# Altium schematic symbol library XTAL,OSC,32MHz,SMD.Schlib: 1 symbol
Pins are listed as number, name and electrical type; pins without a type are passive.

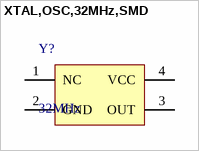
[diagram p0: symbol XTAL,OSC,32MHz,SMD]

## XTAL,OSC,32MHz,SMD
designator Y?, comment 32MHz
32MHz VCTCXO  Oscillator 1.8V  4-SMD, No Lead
pins: 1 NC, 2 GND, 3 OUT, 4 VCC